# EAGLE library part M52-040000S0545 (library con-harwin)
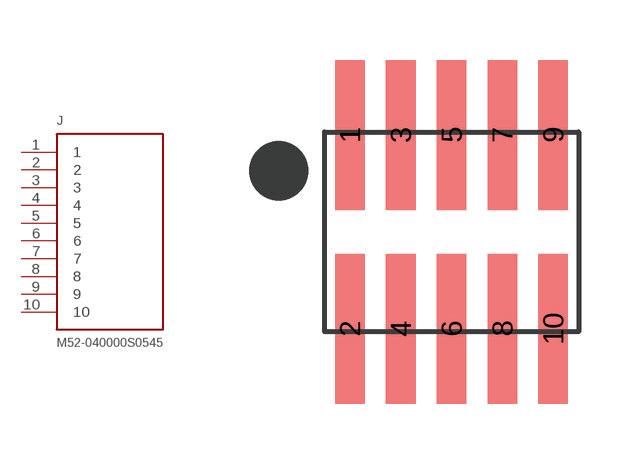
[diagram p0: symbol with the pads of 5X2SMT; footprint 5X2SMT]

Designator prefix J

## M52-040000S0545  [5X2SMT]
1  1
2  2
3  3
4  4
5  5
6  6
7  7
8  8
9  9
10  10

## Footprint 5X2SMT (pad centres in mm)
smd 0.74 x 3.75: 1 -2.54,2.425; 2 -2.54,-2.425; 3 -1.27,2.425; 4 -1.27,-2.425; 5 0,2.425; 6 0,-2.425; 7 1.27,2.425; 8 1.27,-2.425; 9 2.54,2.425; 10 2.54,-2.425